# EAGLE library part IC_SN74LV163A (library 0kaz)
4 BIT Synchronous Binary Counter, 3.3V, 50MHz clock max. Texas Instruments. http://focus.ti.com/lit/ds/symlink/sn74lv163a.pdf
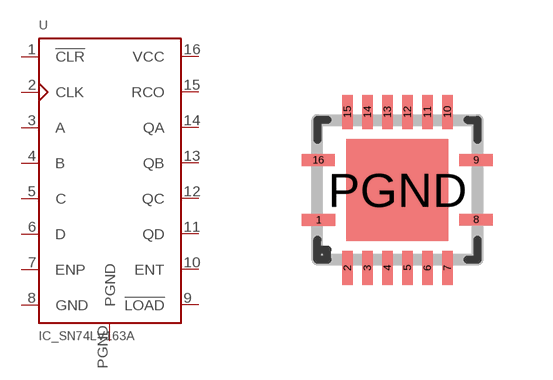
[diagram p9: symbol with the pads of QFN-16; footprint QFN-16]

Designator prefix -

## IC_SN74LV163A  [QFN-16]
1  !CLR!
2  CLK
3  A
4  B
5  C
6  D
7  ENP
8  GND
9  !LOAD!
10  ENT
11  QD
12  QC
13  QB
14  QA
15  RCO
16  VCC
PGND  PGND

## Footprint QFN-16 (pad centres in mm)
smd 0.85 x 0.28: 1 -1.97,-0.75; 8 1.97,-0.74; 9 1.97,0.75; 16 -1.98,0.75
smd 0.28 x 0.85: 2 -1.25,-1.95; 3 -0.75,-1.95; 4 -0.25,-1.95; 5 0.25,-1.95; 6 0.75,-1.95; 7 1.25,-1.95; 10 1.25,1.95; 11 0.75,1.95; 12 0.25,1.95; 13 -0.25,1.95; 14 -0.75,1.95; 15 -1.25,1.95
smd 2.55 x 2.55: PGND 0,0